# EAGLE library part ARDUINONANO (library Arduino)
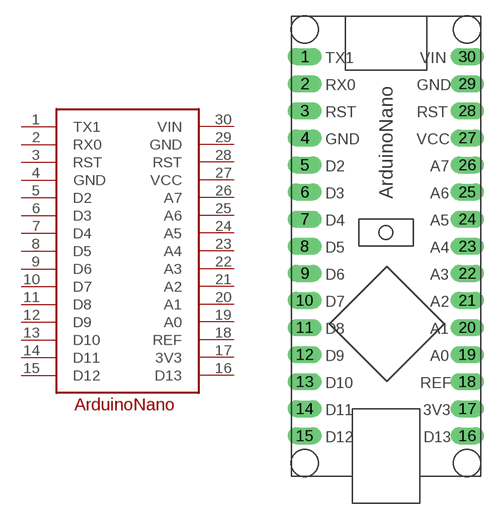
[diagram p0: symbol with the pads of ARDUINONANO; footprint ARDUINONANO]

Designator prefix A

## ARDUINONANO  [ARDUINONANO]
1  TX1
2  RX0
3  RST  in
4  GND  pwr
5  D2  out
6  D3  out
7  D4  out
8  D5  out
9  D6  out
10  D7  out
11  D8  out
12  D9  out
13  D10  out
14  D11  out
15  D12  out
16  D13  out
17  3V3  pwr
18  REF  pwr
19  A0  in
20  A1  in
21  A2  in
22  A3  in
23  A4  in
24  A5  in
25  A6  in
26  A7  in
27  VCC  pwr
28  RST  in
29  GND  pwr
30  VIN  pwr

## Footprint ARDUINONANO (pad centres in mm)
drill 1 pad 1.575 long: 1 -7.62,16.51; 2 -7.62,13.97; 3 -7.62,11.43; 4 -7.62,8.89; 5 -7.62,6.35; 6 -7.62,3.81; 7 -7.62,1.27; 8 -7.62,-1.27; 9 -7.62,-3.81; 10 -7.62,-6.35; 11 -7.62,-8.89; 12 -7.62,-11.43; 13 -7.62,-13.97; 14 -7.62,-16.51; 15 -7.62,-19.05; 16 7.62,-19.05; 17 7.62,-16.51; 18 7.62,-13.97; 19 7.62,-11.43; 20 7.62,-8.89; 21 7.62,-6.35; 22 7.62,-3.81; 23 7.62,-1.27; 24 7.62,1.27; 25 7.62,3.81; 26 7.62,6.35; 27 7.62,8.89; 28 7.62,11.43; 29 7.62,13.97; 30 7.62,16.51